# Altium footprint library X-Connectors.PcbLib: 45 footprints (part 2 of 3)
Each footprint in its own frame and in the unit in brackets; x right, y up, seen from the top. Pads: shape width x height; smd on the part's side, far side on the other; paste and mask are expansions set on the pad; w line width, h text height; cw(c..) or ccw(c..) is an arc to the next point about the centre after c.
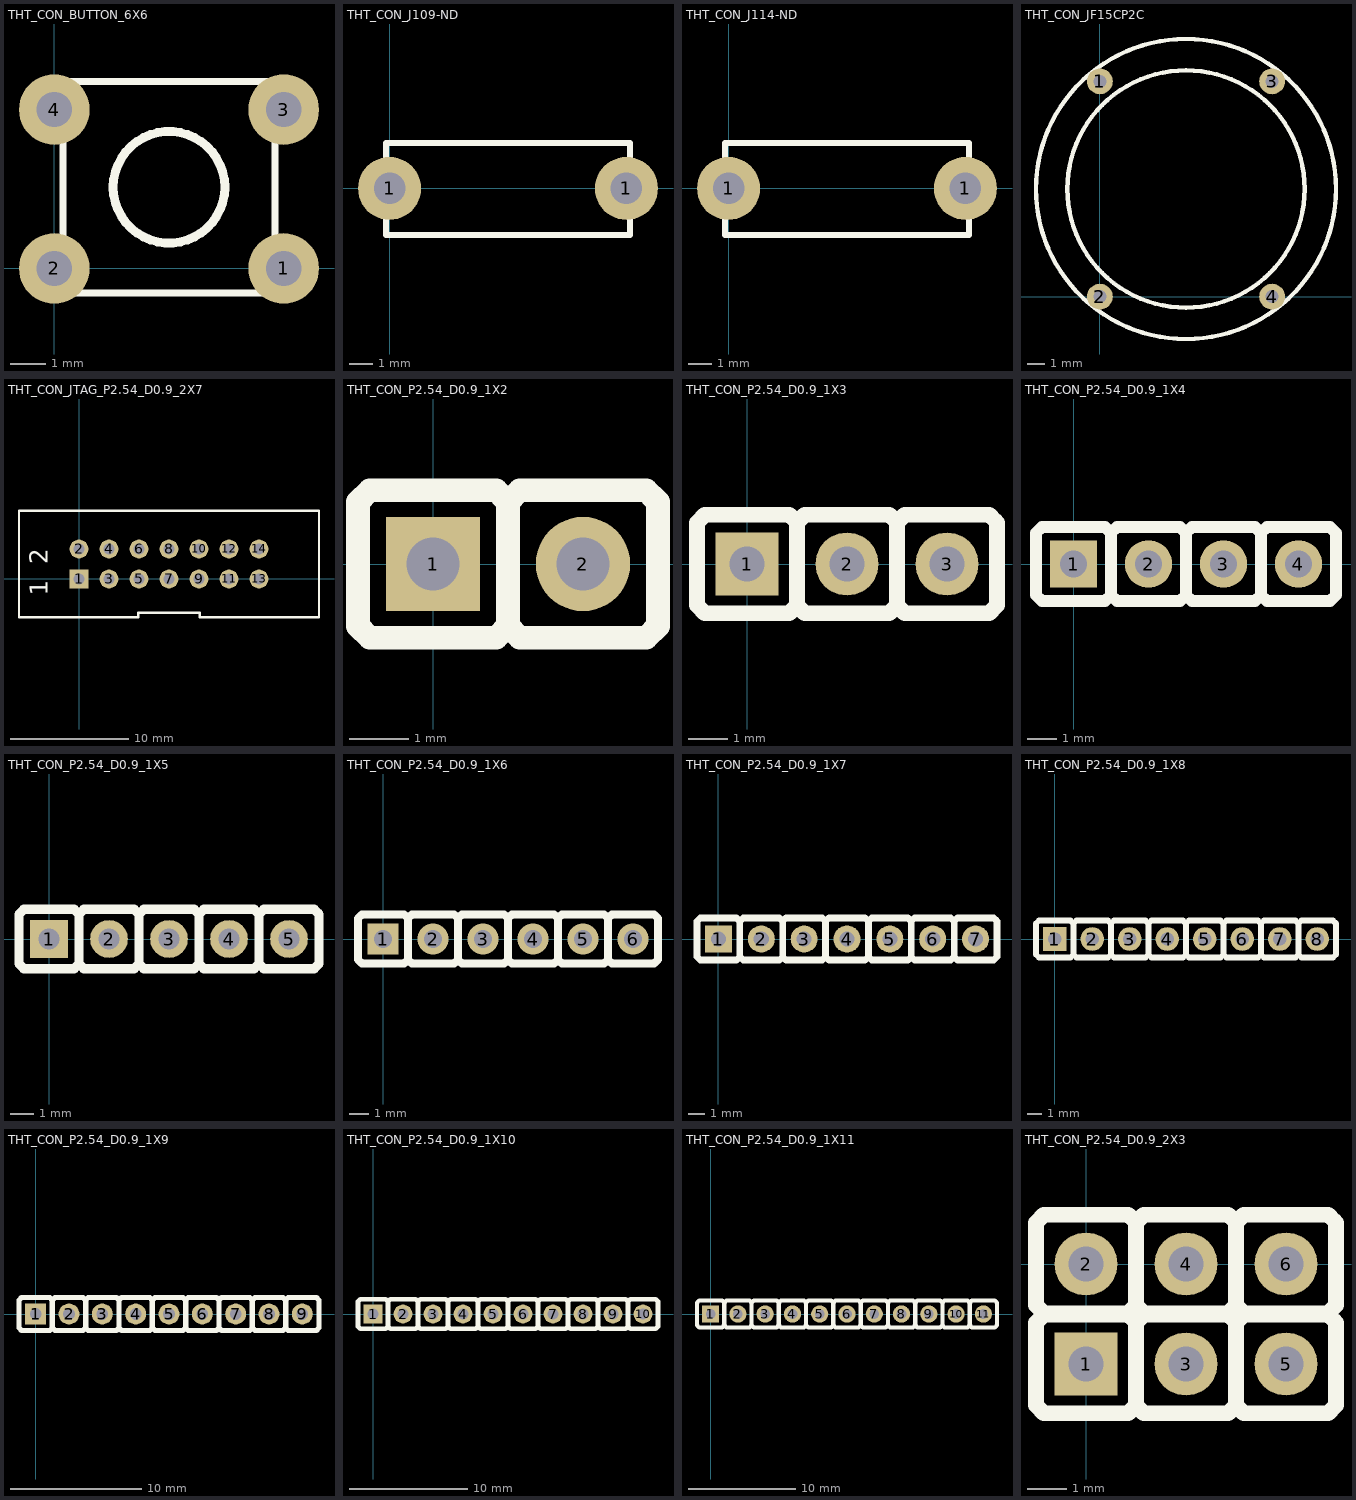
[diagram p1: the footprints below, top view; thin cyan lines are the x and y axes]

## THT_CON_BUTTON_6X6 [mm] "THT_CON_BUTTON_6X6"
height 4.3
pads (4):
  round 2 hole 1: 1(6.5,0) 2(0,0) 3(6.5,4.5) 4(0,4.5)
Top Overlay:
  circle w0.254: c3.25,2.3 r1.581
  lines w0.2: 0.25,-0.7 0.25,5.3 6.25,5.3 6.25,-0.7 0.25,-0.7

## THT_CON_J109-ND [mm]
pads (2):
  round 2.7 hole 1.35: 1(0,0) 1(10.15,0)
Top Overlay:
  lines w0.254: -0.15,-2 -0.15,1.95 10.3,1.95 10.3,-2 -0.15,-2

## THT_CON_J114-ND [mm]
pads (2):
  round 2.7 hole 1.35: 1(0,0) 1(10.15,0)
Top Overlay:
  lines w0.254: -0.15,-2 10.3,-2 10.3,1.95 -0.15,1.95 -0.15,-2

## THT_CON_JF15CP2C [mil] "THT_CON_JF15CP2C"
height 200
pads (4):
  round 60 hole 30: 1(0,500) 2(0,0) 3(400,500) 4(400,0)
Top Overlay:
  circle w10: c200,250 r275.59
  circle w10: c200,250 r348.43

## THT_CON_JTAG_P2.54_D0.9_2X7 [mm] "THT_CON_JTAG_P2.54_D0.9_2X7"
pads (14):
  rect 1.6x1.6 hole 0.9: 1(0,0)
  round 1.6 hole 0.9: 2(0,2.54) 3(2.54,0) 4(2.54,2.54) 5(5.08,0) 6(5.08,2.54) 7(7.62,0) 8(7.62,2.54) 9(10.16,0) 10(10.16,2.54) 11(12.7,0) 12(12.7,2.54) 13(15.24,0) 14(15.24,2.54)
Top Overlay:
  lines w0.2: -5.08,-3.23 5.02,-3.23 5.02,-2.87 10.22,-2.87 10.22,-3.23 20.32,-3.23 20.32,5.77 -5.08,5.77 -5.08,-3.23
  text "1  2" at -2.63,-1.42 h1.52

## THT_CON_P2.54_D0.9_1X2 [mm]
pads (2):
  rect 1.6x1.6 hole 0.9: 1(0,0)
  round 1.6 hole 0.9: 2(2.54,0)
Top Overlay:
  lines w0.4: 1.23,1.09 1.07,1.25 -1.07,1.25 -1.27,1.05 -1.27,-1.05 -1.07,-1.25 1.07,-1.25 1.27,-1.05 ; 3.77,1.09 3.61,1.25 1.47,1.25 1.27,1.05 1.27,-1.05 ; 3.81,1.05 3.81,-1.05 3.61,-1.25 1.47,-1.25 1.27,-1.05

## THT_CON_P2.54_D0.9_1X3 [mm]
pads (3):
  rect 1.6x1.6 hole 0.9: 1(0,0)
  round 1.6 hole 0.9: 2(2.54,0) 3(5.08,0)
Top Overlay:
  lines w0.4: 1.23,1.09 1.07,1.25 -1.07,1.25 -1.27,1.05 -1.27,-1.05 -1.07,-1.25 1.07,-1.25 1.27,-1.05 ; 3.77,1.09 3.61,1.25 1.47,1.25 1.27,1.05 1.27,-1.05 ; 6.31,1.09 6.15,1.25 4.01,1.25 3.81,1.05 3.81,-1.05 ; 6.35,1.05 6.35,-1.05 6.15,-1.25 4.01,-1.25 3.81,-1.05 ; 1.27,-1.05 1.47,-1.25 3.61,-1.25 3.81,-1.05

## THT_CON_P2.54_D0.9_1X4 [mm]
pads (4):
  rect 1.6x1.6 hole 0.9: 1(0,0)
  round 1.6 hole 0.9: 2(2.54,0) 3(5.08,0) 4(7.62,0)
Top Overlay:
  lines w0.4: 1.23,1.09 1.07,1.25 -1.07,1.25 -1.27,1.05 -1.27,-1.05 -1.07,-1.25 1.07,-1.25 1.27,-1.05 ; 3.77,1.09 3.61,1.25 1.47,1.25 1.27,1.05 1.27,-1.05 ; 6.31,1.09 6.15,1.25 4.01,1.25 3.81,1.05 3.81,-1.05 ; 8.85,1.09 8.69,1.25 6.55,1.25 6.35,1.05 6.35,-1.05 ; 8.89,1.05 8.89,-1.05 8.69,-1.25 6.55,-1.25 6.35,-1.05 ; 1.27,-1.05 1.47,-1.25 3.61,-1.25 3.81,-1.05 ; 3.81,-1.05 4.01,-1.25 6.15,-1.25 6.35,-1.05

## THT_CON_P2.54_D0.9_1X5 [mm]
pads (5):
  rect 1.6x1.6 hole 0.9: 1(0,0)
  round 1.6 hole 0.9: 2(2.54,0) 3(5.08,0) 4(7.62,0) 5(10.16,0)
Top Overlay:
  lines w0.4: 1.23,1.09 1.07,1.25 -1.07,1.25 -1.27,1.05 -1.27,-1.05 -1.07,-1.25 1.07,-1.25 1.27,-1.05 ; 3.77,1.09 3.61,1.25 1.47,1.25 1.27,1.05 1.27,-1.05 ; 6.31,1.09 6.15,1.25 4.01,1.25 3.81,1.05 3.81,-1.05 ; 8.85,1.09 8.69,1.25 6.55,1.25 6.35,1.05 6.35,-1.05 ; 11.39,1.09 11.23,1.25 9.09,1.25 8.89,1.05 8.89,-1.05 ; 11.43,1.05 11.43,-1.05 11.23,-1.25 9.09,-1.25 8.89,-1.05 ; 1.27,-1.05 1.47,-1.25 3.61,-1.25 3.81,-1.05 ; 3.81,-1.05 4.01,-1.25 6.15,-1.25 6.35,-1.05 ; 6.35,-1.05 6.55,-1.25 8.69,-1.25 8.89,-1.05

## THT_CON_P2.54_D0.9_1X6 [mm]
pads (6):
  rect 1.6x1.6 hole 0.9: 1(0,0)
  round 1.6 hole 0.9: 2(2.54,0) 3(5.08,0) 4(7.62,0) 5(10.16,0) 6(12.7,0)
Top Overlay:
  lines w0.4: 1.23,1.09 1.07,1.25 -1.07,1.25 -1.27,1.05 -1.27,-1.05 -1.07,-1.25 1.07,-1.25 1.27,-1.05 ; 3.77,1.09 3.61,1.25 1.47,1.25 1.27,1.05 1.27,-1.05 ; 6.31,1.09 6.15,1.25 4.01,1.25 3.81,1.05 3.81,-1.05 ; 8.85,1.09 8.69,1.25 6.55,1.25 6.35,1.05 6.35,-1.05 ; 11.39,1.09 11.23,1.25 9.09,1.25 8.89,1.05 8.89,-1.05 ; 13.93,1.09 13.77,1.25 11.63,1.25 11.43,1.05 11.43,-1.05 ; 13.97,1.05 13.97,-1.05 13.77,-1.25 11.63,-1.25 11.43,-1.05 ; 1.27,-1.05 1.47,-1.25 3.61,-1.25 3.81,-1.05 ; 3.81,-1.05 4.01,-1.25 6.15,-1.25 6.35,-1.05 ; 6.35,-1.05 6.55,-1.25 8.69,-1.25 8.89,-1.05 ; 8.89,-1.05 9.09,-1.25 11.23,-1.25 11.43,-1.05

## THT_CON_P2.54_D0.9_1X7 [mm]
pads (7):
  rect 1.6x1.6 hole 0.9: 1(0,0)
  round 1.6 hole 0.9: 2(2.54,0) 3(5.08,0) 4(7.62,0) 5(10.16,0) 6(12.7,0) 7(15.24,0)
Top Overlay:
  lines w0.4: 1.23,1.09 1.07,1.25 -1.07,1.25 -1.27,1.05 -1.27,-1.05 -1.07,-1.25 1.07,-1.25 1.27,-1.05 ; 3.77,1.09 3.61,1.25 1.47,1.25 1.27,1.05 1.27,-1.05 ; 6.31,1.09 6.15,1.25 4.01,1.25 3.81,1.05 3.81,-1.05 ; 8.85,1.09 8.69,1.25 6.55,1.25 6.35,1.05 6.35,-1.05 ; 11.39,1.09 11.23,1.25 9.09,1.25 8.89,1.05 8.89,-1.05 ; 13.93,1.09 13.77,1.25 11.63,1.25 11.43,1.05 11.43,-1.05 ; 16.47,1.09 16.31,1.25 14.17,1.25 13.97,1.05 13.97,-1.05 ; 16.51,1.05 16.51,-1.05 16.31,-1.25 14.17,-1.25 13.97,-1.05 ; 1.27,-1.05 1.47,-1.25 3.61,-1.25 3.81,-1.05 ; 3.81,-1.05 4.01,-1.25 6.15,-1.25 6.35,-1.05 ; 6.35,-1.05 6.55,-1.25 8.69,-1.25 8.89,-1.05 ; 8.89,-1.05 9.09,-1.25 11.23,-1.25 11.43,-1.05 ; 11.43,-1.05 11.63,-1.25 13.77,-1.25 13.97,-1.05

## THT_CON_P2.54_D0.9_1X8 [mm]
pads (8):
  rect 1.6x1.6 hole 0.9: 1(0,0)
  round 1.6 hole 0.9: 2(2.54,0) 3(5.08,0) 4(7.62,0) 5(10.16,0) 6(12.7,0) 7(15.24,0) 8(17.78,0)
Top Overlay:
  lines w0.4: 1.23,1.09 1.07,1.25 -1.07,1.25 -1.27,1.05 -1.27,-1.05 -1.07,-1.25 1.07,-1.25 1.27,-1.05 ; 3.77,1.09 3.61,1.25 1.47,1.25 1.27,1.05 1.27,-1.05 ; 6.31,1.09 6.15,1.25 4.01,1.25 3.81,1.05 3.81,-1.05 ; 8.85,1.09 8.69,1.25 6.55,1.25 6.35,1.05 6.35,-1.05 ; 11.39,1.09 11.23,1.25 9.09,1.25 8.89,1.05 8.89,-1.05 ; 13.93,1.09 13.77,1.25 11.63,1.25 11.43,1.05 11.43,-1.05 ; 16.47,1.09 16.31,1.25 14.17,1.25 13.97,1.05 13.97,-1.05 ; 19.01,1.09 18.85,1.25 16.71,1.25 16.51,1.05 16.51,-1.05 ; 19.05,1.05 19.05,-1.05 18.85,-1.25 16.71,-1.25 16.51,-1.05 ; 1.27,-1.05 1.47,-1.25 3.61,-1.25 3.81,-1.05 ; 3.81,-1.05 4.01,-1.25 6.15,-1.25 6.35,-1.05 ; 6.35,-1.05 6.55,-1.25 8.69,-1.25 8.89,-1.05 ; 8.89,-1.05 9.09,-1.25 11.23,-1.25 11.43,-1.05 ; 11.43,-1.05 11.63,-1.25 13.77,-1.25 13.97,-1.05 ; 13.97,-1.05 14.17,-1.25 16.31,-1.25 16.51,-1.05

## THT_CON_P2.54_D0.9_1X9 [mm]
pads (9):
  rect 1.6x1.6 hole 0.9: 1(0,0)
  round 1.6 hole 0.9: 2(2.54,0) 3(5.08,0) 4(7.62,0) 5(10.16,0) 6(12.7,0) 7(15.24,0) 8(17.78,0) 9(20.32,0)
Top Overlay:
  lines w0.4: 1.23,1.09 1.07,1.25 -1.07,1.25 -1.27,1.05 -1.27,-1.05 -1.07,-1.25 1.07,-1.25 1.27,-1.05 ; 3.77,1.09 3.61,1.25 1.47,1.25 1.27,1.05 1.27,-1.05 ; 6.31,1.09 6.15,1.25 4.01,1.25 3.81,1.05 3.81,-1.05 ; 8.85,1.09 8.69,1.25 6.55,1.25 6.35,1.05 6.35,-1.05 ; 11.39,1.09 11.23,1.25 9.09,1.25 8.89,1.05 8.89,-1.05 ; 13.93,1.09 13.77,1.25 11.63,1.25 11.43,1.05 11.43,-1.05 ; 16.47,1.09 16.31,1.25 14.17,1.25 13.97,1.05 13.97,-1.05 ; 19.01,1.09 18.85,1.25 16.71,1.25 16.51,1.05 16.51,-1.05 ; 21.55,1.09 21.39,1.25 19.25,1.25 19.05,1.05 19.05,-1.05 ; 21.59,1.05 21.59,-1.05 21.39,-1.25 19.25,-1.25 19.05,-1.05 ; 1.27,-1.05 1.47,-1.25 3.61,-1.25 3.81,-1.05 ; 3.81,-1.05 4.01,-1.25 6.15,-1.25 6.35,-1.05 ; 6.35,-1.05 6.55,-1.25 8.69,-1.25 8.89,-1.05 ; 8.89,-1.05 9.09,-1.25 11.23,-1.25 11.43,-1.05 ; 11.43,-1.05 11.63,-1.25 13.77,-1.25 13.97,-1.05 ; 13.97,-1.05 14.17,-1.25 16.31,-1.25 16.51,-1.05 ; 16.51,-1.05 16.71,-1.25 18.85,-1.25 19.05,-1.05

## THT_CON_P2.54_D0.9_1X10 [mm]
pads (10):
  rect 1.6x1.6 hole 0.9: 1(0,0)
  round 1.6 hole 0.9: 2(2.54,0) 3(5.08,0) 4(7.62,0) 5(10.16,0) 6(12.7,0) 7(15.24,0) 8(17.78,0) 9(20.32,0) 10(22.86,0)
Top Overlay:
  lines w0.4: 1.23,1.09 1.07,1.25 -1.07,1.25 -1.27,1.05 -1.27,-1.05 -1.07,-1.25 1.07,-1.25 1.27,-1.05 ; 3.77,1.09 3.61,1.25 1.47,1.25 1.27,1.05 1.27,-1.05 ; 6.31,1.09 6.15,1.25 4.01,1.25 3.81,1.05 3.81,-1.05 ; 8.85,1.09 8.69,1.25 6.55,1.25 6.35,1.05 6.35,-1.05 ; 11.39,1.09 11.23,1.25 9.09,1.25 8.89,1.05 8.89,-1.05 ; 13.93,1.09 13.77,1.25 11.63,1.25 11.43,1.05 11.43,-1.05 ; 16.47,1.09 16.31,1.25 14.17,1.25 13.97,1.05 13.97,-1.05 ; 19.01,1.09 18.85,1.25 16.71,1.25 16.51,1.05 16.51,-1.05 ; 21.55,1.09 21.39,1.25 19.25,1.25 19.05,1.05 19.05,-1.05 ; 24.09,1.09 23.93,1.25 21.79,1.25 21.59,1.05 21.59,-1.05 ; 24.13,1.05 24.13,-1.05 23.93,-1.25 21.79,-1.25 21.59,-1.05 ; 1.27,-1.05 1.47,-1.25 3.61,-1.25 3.81,-1.05 ; 3.81,-1.05 4.01,-1.25 6.15,-1.25 6.35,-1.05 ; 6.35,-1.05 6.55,-1.25 8.69,-1.25 8.89,-1.05 ; 8.89,-1.05 9.09,-1.25 11.23,-1.25 11.43,-1.05 ; 11.43,-1.05 11.63,-1.25 13.77,-1.25 13.97,-1.05 ; 13.97,-1.05 14.17,-1.25 16.31,-1.25 16.51,-1.05 ; 16.51,-1.05 16.71,-1.25 18.85,-1.25 19.05,-1.05 ; 19.05,-1.05 19.25,-1.25 21.39,-1.25 21.59,-1.05

## THT_CON_P2.54_D0.9_1X11 [mm]
pads (11):
  rect 1.6x1.6 hole 0.9: 1(0,0)
  round 1.6 hole 0.9: 2(2.54,0) 3(5.08,0) 4(7.62,0) 5(10.16,0) 6(12.7,0) 7(15.24,0) 8(17.78,0) 9(20.32,0) 10(22.86,0) 11(25.4,0)
Top Overlay:
  lines w0.4: 1.23,1.09 1.07,1.25 -1.07,1.25 -1.27,1.05 -1.27,-1.05 -1.07,-1.25 1.07,-1.25 1.27,-1.05 ; 3.77,1.09 3.61,1.25 1.47,1.25 1.27,1.05 1.27,-1.05 ; 6.31,1.09 6.15,1.25 4.01,1.25 3.81,1.05 3.81,-1.05 ; 8.85,1.09 8.69,1.25 6.55,1.25 6.35,1.05 6.35,-1.05 ; 11.39,1.09 11.23,1.25 9.09,1.25 8.89,1.05 8.89,-1.05 ; 13.93,1.09 13.77,1.25 11.63,1.25 11.43,1.05 11.43,-1.05 ; 16.47,1.09 16.31,1.25 14.17,1.25 13.97,1.05 13.97,-1.05 ; 19.01,1.09 18.85,1.25 16.71,1.25 16.51,1.05 16.51,-1.05 ; 21.55,1.09 21.39,1.25 19.25,1.25 19.05,1.05 19.05,-1.05 ; 24.09,1.09 23.93,1.25 21.79,1.25 21.59,1.05 21.59,-1.05 ; 26.63,1.09 26.47,1.25 24.33,1.25 24.13,1.05 24.13,-1.05 ; 26.67,1.05 26.67,-1.05 26.47,-1.25 24.33,-1.25 24.13,-1.05 ; 1.27,-1.05 1.47,-1.25 3.61,-1.25 3.81,-1.05 ; 3.81,-1.05 4.01,-1.25 6.15,-1.25 6.35,-1.05 ; 6.35,-1.05 6.55,-1.25 8.69,-1.25 8.89,-1.05 ; 8.89,-1.05 9.09,-1.25 11.23,-1.25 11.43,-1.05 ; 11.43,-1.05 11.63,-1.25 13.77,-1.25 13.97,-1.05 ; 13.97,-1.05 14.17,-1.25 16.31,-1.25 16.51,-1.05 ; 16.51,-1.05 16.71,-1.25 18.85,-1.25 19.05,-1.05 ; 19.05,-1.05 19.25,-1.25 21.39,-1.25 21.59,-1.05 ; 21.59,-1.05 21.79,-1.25 23.93,-1.25 24.13,-1.05

## THT_CON_P2.54_D0.9_2X3 [mm]
pads (6):
  rect 1.6x1.6 hole 0.9: 1(0,-2.54)
  round 1.6 hole 0.9: 2(0,0) 3(2.54,-2.54) 4(2.54,0) 5(5.08,-2.54) 6(5.08,0)
Top Overlay:
  lines w0.4: 1.23,-1.45 1.07,-1.29 -1.07,-1.29 -1.27,-1.49 -1.27,-3.59 -1.07,-3.79 1.07,-3.79 1.27,-3.59 ; 1.23,1.09 1.07,1.25 -1.07,1.25 -1.27,1.05 -1.27,-1.05 -1.07,-1.25 1.07,-1.25 1.27,-1.05 ; 3.77,-1.45 3.61,-1.29 1.47,-1.29 1.27,-1.49 1.27,-3.59 ; 3.77,1.09 3.61,1.25 1.47,1.25 1.27,1.05 1.27,-1.05 ; 6.31,-1.45 6.15,-1.29 4.01,-1.29 3.81,-1.49 3.81,-3.59 ; 6.31,1.09 6.15,1.25 4.01,1.25 3.81,1.05 3.81,-1.05 ; 6.35,-1.49 6.35,-3.59 6.15,-3.79 4.01,-3.79 3.81,-3.59 ; 6.35,1.05 6.35,-1.05 6.15,-1.25 4.01,-1.25 3.81,-1.05 ; 1.27,-3.59 1.47,-3.79 3.61,-3.79 3.81,-3.59 ; 1.27,-1.05 1.47,-1.25 3.61,-1.25 3.81,-1.05